# Altium footprint library CPC1393GR.PcbLib: 1 footprints
Each footprint in its own frame and in the unit in brackets; x right, y up, seen from the top. Pads: shape width x height; smd on the part's side, far side on the other; paste and mask are expansions set on the pad; w line width, h text height; cw(c..) or ccw(c..) is an arc to the next point about the centre after c.
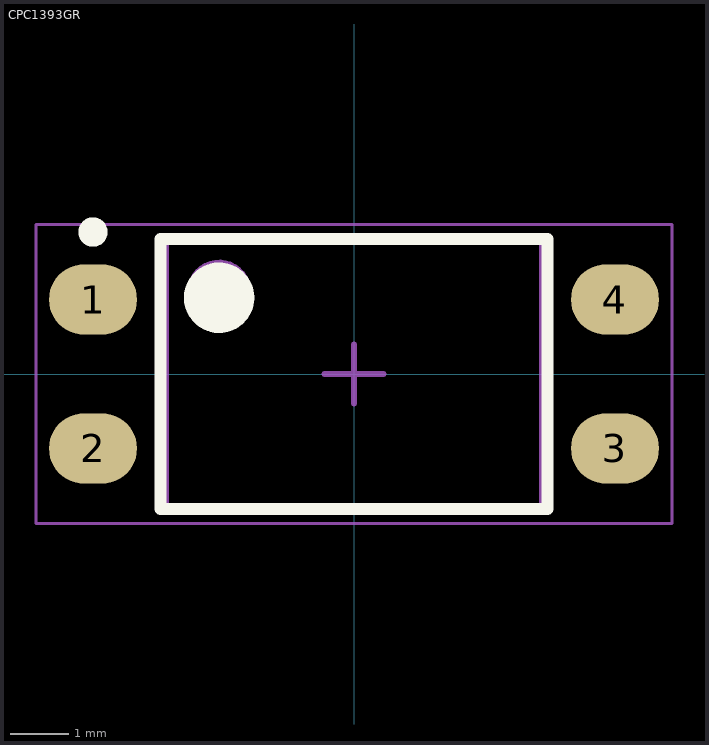
[diagram p0: the footprint, top view; thin cyan lines are the x and y axes]

## CPC1393GR [mm] "CPC1393GR, 4-Leads, Body 4.57x6.35mm, Pitch 2.54mm, IPC Medium Density"
height 3.3
pads (4):
  oval 1.5x1.2 smd: 1(-4.45,1.27) 2(-4.45,-1.27) 3(4.45,-1.27) 4(4.45,1.27)
Top Overlay:
  circle w0.6: c-2.3,1.3 r0.3
  circle w0.25: c-4.45,2.42 r0.125
  lines w0.2: -3.3,-2.3 3.3,-2.3 3.3,2.3 -3.3,2.3 -3.3,-2.3
Mechanical 13:
  circle w0.1: c-2.3,1.4 r0.5
  lines w0.1: -3.2,-2.3 3.2,-2.3 3.2,2.3 -3.2,2.3 -3.2,-2.3
Mechanical 15:
  lines w0.05: -5.425,-2.55 5.425,-2.55 5.425,2.55 -5.425,2.55 -5.425,-2.55
  lines w0.1: -0.5,0 0.5,0 ; 0,-0.5 0,0.5
3D body "CPC1393GR.step": height 3.3, standoff 0, extent -4.763,-2.3 4.763,2.3